# Altium footprint library BYU7SegBoard.PcbLib: 17 footprints (part 2 of 2)
Each footprint in its own frame and in the unit in brackets; x right, y up, seen from the top. Pads: shape width x height; smd on the part's side, far side on the other; paste and mask are expansions set on the pad; w line width, h text height; cw(c..) or ccw(c..) is an arc to the next point about the centre after c.
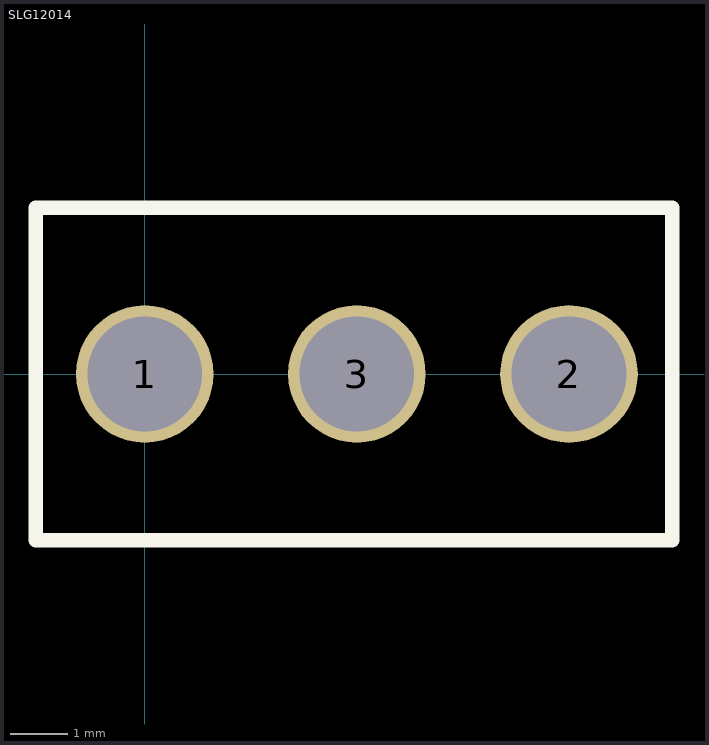
[diagram p1: the footprint, top view; thin cyan lines are the x and y axes]

## SLG12014 [mm]
pads (3):
  round 2.4 hole 2: 1(0,0) 2(7.4,0) 3(3.7,0)
Top Overlay:
  lines w0.254: -1.9,-2.9 -1.9,2.9 9.2,2.9 9.2,-2.9 -1.9,-2.9
3D body: height 0, standoff -4.2, extent 6.772,-0.635 8.035,0.642
3D body: height 0, standoff -4.2, extent 3.072,-0.635 4.335,0.642
3D body: height 0, standoff -4.2, extent -0.628,-0.635 0.635,0.642
3D body: height 4.9, standoff 0, extent -1.8,-2.85 9.2,2.85
3D body: height 8.9, standoff 2.6, extent 0.25,-1.55 3.35,1.55